# EAGLE library part MSP430G2*52?14 (library ElevenDroids - ICs)
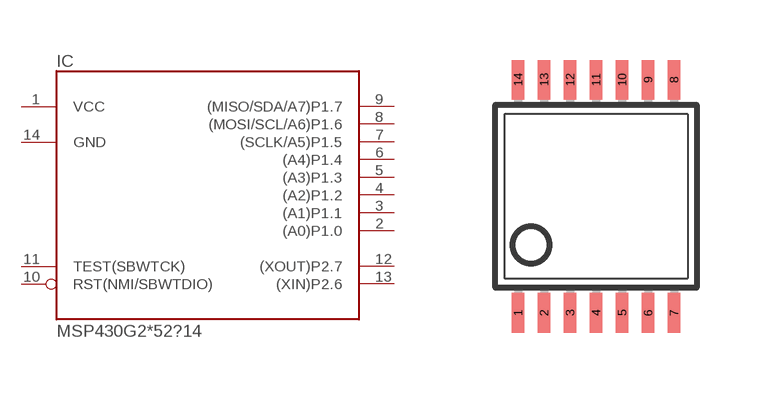
[diagram p17: symbol with the pads of TSSOP14; footprint TSSOP14]

Designator prefix IC

## MSP430G2352IPW14, MSP430G2452IPW14  [TSSOP14]
1  VCC  pwr
2  (A0)P1.0
3  (A1)P1.1
4  (A2)P1.2
5  (A3)P1.3
6  (A4)P1.4
7  (SCLK/A5)P1.5
8  (MOSI/SCL/A6)P1.6
9  (MISO/SDA/A7)P1.7
10  RST(NMI/SBWTDIO)
11  TEST(SBWTCK)
12  (XOUT)P2.7
13  (XIN)P2.6
14  GND  pwr

## Footprint TSSOP14 (pad centres in mm)
Thin Shrink Small Outline Plastic 14 MAX3223-MAX3243.pdf
smd 0.305 x 0.991: 1 -1.95,-2.918; 2 -1.3,-2.918; 3 -0.65,-2.918; 4 0,-2.918; 5 0.65,-2.918; 6 1.3,-2.918; 7 1.95,-2.918; 8 1.95,2.918; 9 1.3,2.918; 10 0.65,2.918; 11 0,2.918; 12 -0.65,2.918; 13 -1.3,2.918; 14 -1.95,2.918